# Altium footprint library StrommessplatinePcbLib.PcbLib: 15 footprints
Each footprint in its own frame and in the unit in brackets; x right, y up, seen from the top. Pads: shape width x height; smd on the part's side, far side on the other; paste and mask are expansions set on the pad; w line width, h text height; cw(c..) or ccw(c..) is an arc to the next point about the centre after c.
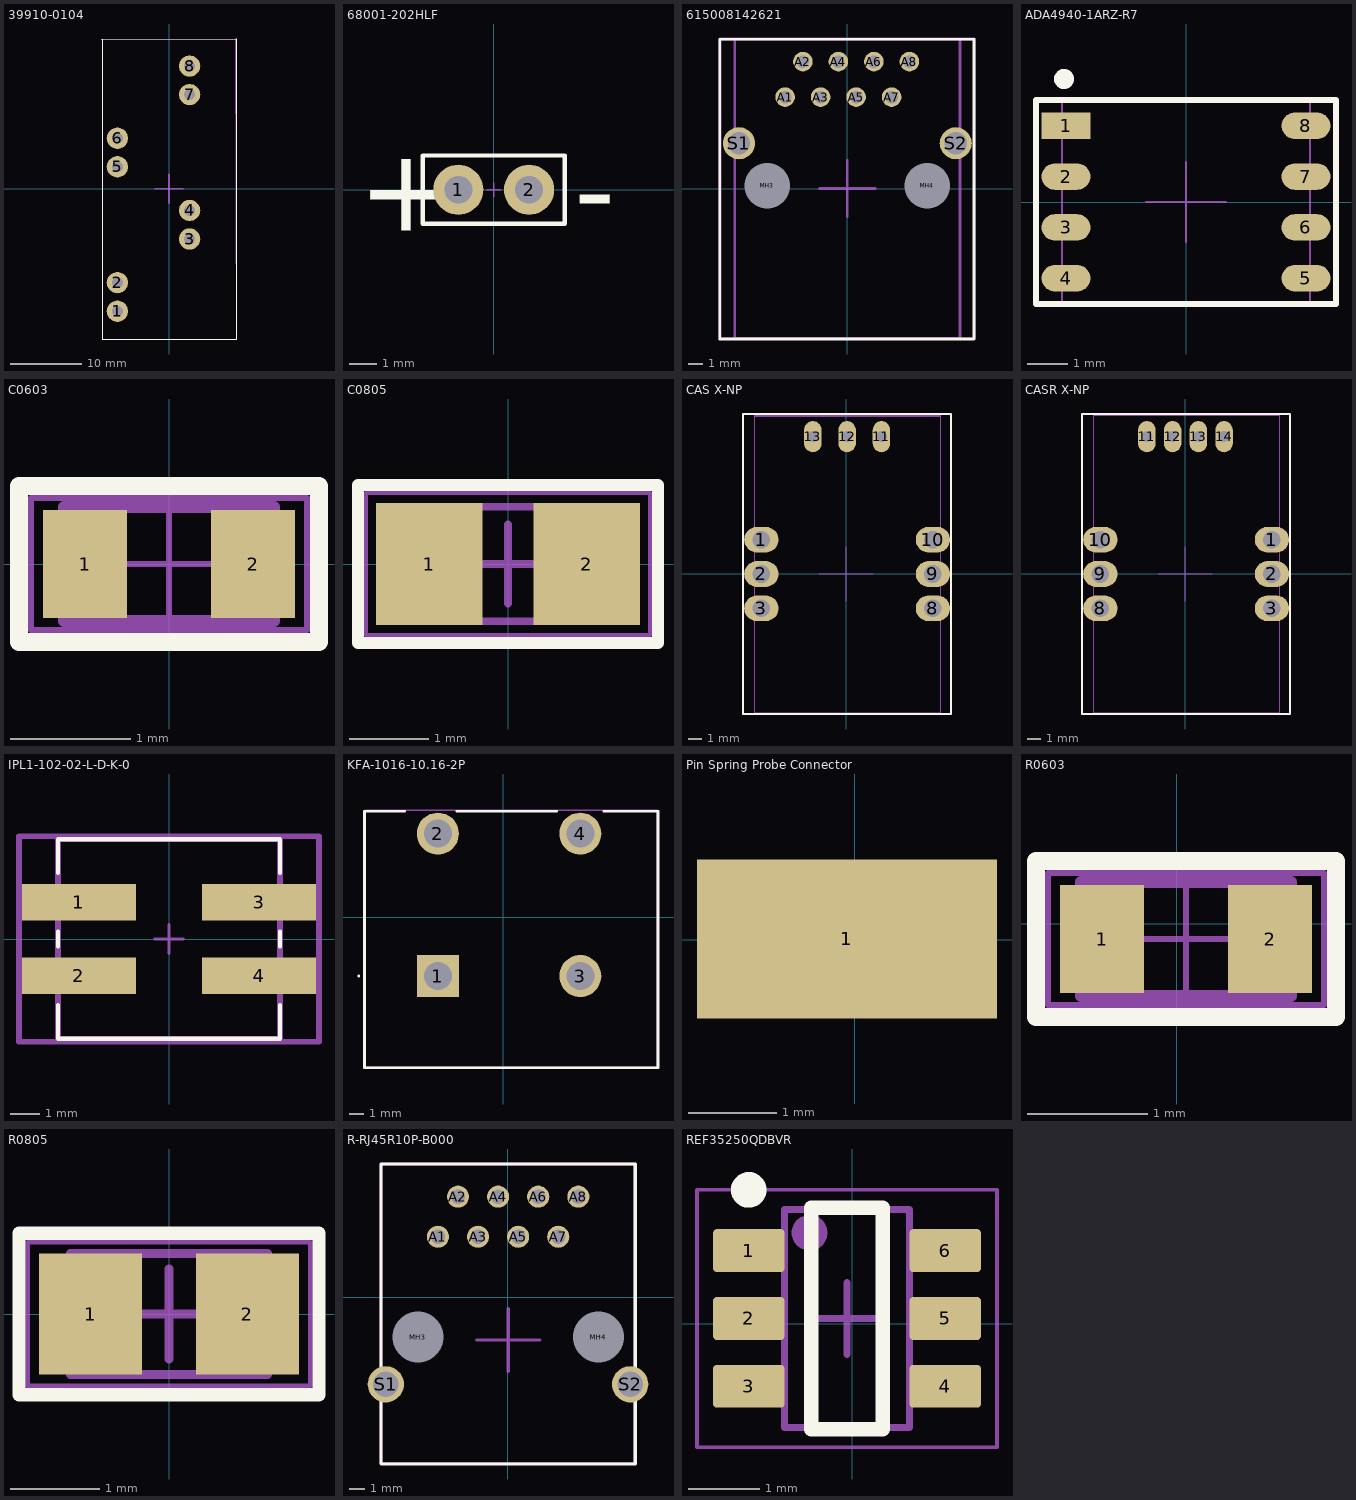
[diagram p0: the footprints below, top view; thin cyan lines are the x and y axes]

## 39910-0104 [mm]
pads (8):
  round 3 hole 1.52: 1(-7.26,-17.245) 2(-7.26,-13.225) 3(2.9,-7.085) 4(2.9,-3.065) 5(-7.26,3.075) 6(-7.26,7.095) 7(2.9,13.235) 8(2.9,17.245)
Top Overlay:
  lines w0.15: -9.43,21.06 9.43,21.06 9.43,-21.155 -9.42,-21.155 -9.42,21.06
Top Assembly:
  lines w0.05: 9.35,21.06 9.43,-21.155 -9.42,-21.155 -9.42,21.06 9.43,21.06
Top Courtyard:
  lines w0.05: -9.43,21.06 9.43,21.06 9.43,-21.155 -9.42,-21.155 -9.42,21.06
Top Designator:
  text "'.Designator'" at -9.251,21.892 h1.52
  text ".Designator" at -7.61,0.789 h1.52
Top Component Center:
  lines w0.254: -2,0 2,0 ; 0,-2 0,2
3D body "399100104.stp": height 29.72, standoff -4.06, extent -9.392,-21.129 9.404,21.035

## 68001-202HLF [mm]
pads (2):
  round 1.8 hole 1: 1(-1.27,0) 2(1.27,0)
Top Overlay:
  lines w0.15: -2.55,-1.225 2.55,-1.225 2.55,1.225 -2.55,1.225 -2.55,-1.225
  text "+" at -4.875,-1.475 h3
  text "-" at 2.9,-1.475 h3
Top Assembly:
  lines w0.05: -2.55,-1.225 2.55,-1.225 2.55,1.225 -2.55,1.225 -2.55,-1.225
Top Courtyard:
  lines w0.05: -2.55,-1.225 2.55,-1.225 2.55,1.225 -2.55,1.225 -2.55,-1.225
Top Designator:
  text "'.Designator'" at -2.271,1.987 h1.52
Top Component Center:
  lines w0.05: -0.25,0 0.25,0 ; 0,-0.25 0,0.25
3D body "68001-202HLF--3DModel-STEP-533217.STEP": height 8.5, standoff -2.93, extent -2.54,-1.206 2.54,1.206

## 615008142621 [mm]
pads (12):
  round 1.4 hole 0.9: A1(-4.45,6.542) A2(-3.18,9.082) A3(-1.91,6.542) A4(-0.64,9.082) A5(0.63,6.542) A6(1.9,9.082) A7(3.17,6.542) A8(4.44,9.082)
  round 1.065 hole 3.25 unplated: MH3(-5.715,0.192) MH4(5.715,0.192)
  round 2.3 hole 1.6: S1(-7.75,3.243) S2(7.75,3.243)
Top Overlay:
  lines w0.2: -9.125,-10.753 9.05,-10.753 9.05,10.672 -9.125,10.672 -9.125,-10.753
Top Assembly:
  lines w0.2: -8.044,-10.727 -8.044,10.673 8.056,10.673 8.056,-10.727 -8.044,-10.727
Top Courtyard:
  lines w0.2: -9.1,-10.727 9.075,-10.727 9.075,10.697 -9.1,10.697 -9.1,-10.727
Top Designator:
  text "'.Designator'" at -5.396,11.659 h1.52
Top Component Center:
  lines w0.2: -2,0 2,0 ; 0,-2 0,2
3D body "615008142621_Download_STP_615008142621_rev1.stp": height 13.31, standoff -4.03, extent -7.94,-10.653 7.94,10.547

## ADA4940-1ARZ-R7 [mm]
pads (8):
  rect 1.22x0.663 smd: 1(-3,1.905)
  oval 1.22x0.663 smd: 2(-3,0.635) 3(-3,-0.635) 4(-3,-1.905) 5(3,-1.905) 6(3,-0.635) 7(3,0.635) 8(3,1.905)
Top Overlay:
  circle w0.25: c-3.05,3.075 r0.125
  lines w0.15: -3.75,-2.55 3.75,-2.55 3.75,2.55 -3.75,2.55 -3.75,-2.55
Top Assembly:
  lines w0.05: -3.1,-2.5 -3.1,2.5 3.1,2.5 3.1,-2.5 -3.1,-2.5
Top Courtyard:
  lines w0.05: -3.75,-2.55 3.75,-2.55 3.75,2.55 -3.75,2.55 -3.75,-2.55
Top Designator:
  text "'.Designator'" at 4,1.017 h0.8
Top Component Center:
  lines w0.05: -1,0 1,0 ; 0,-1 0,1
3D body "R_8_ADI.step": height 1.76, standoff 0, extent -3.099,-2.502 3.099,2.502

## C0603 [mm]
pads (2):
  rect 0.7x0.9 smd: 1(-0.7,0) 2(0.7,0)
Top Overlay:
  lines w0.15: -1.25,-0.65 1.25,-0.65 1.25,0.65 -1.25,0.65 -1.25,-0.65
Top Assembly:
  lines w0.1: -0.875,-0.475 -0.875,0.475 0.875,0.475 0.875,-0.475 -0.875,-0.475
Top Courtyard:
  lines w0.05: -1.15,-0.55 -1.15,0.55 ; -1.15,-0.55 1.15,-0.55 ; -1.15,-0.55 -1.15,0.55 ; -1.15,-0.55 1.15,-0.55 ; -1.15,0.55 1.15,0.55 ; -1.15,0.55 1.15,0.55 ; 1.15,-0.55 1.15,0.55 ; 1.15,-0.55 1.15,0.55
Top Designator:
  text ".Designator" at 1.425,-0.275 h1
Top Component Center:
  lines w0.05: -0.475,0 0.475,0 ; 0,-0.475 0,0.475
Top Value:
  text ".Comment" at 1.4,-1.225 h1
3D body: height 1, standoff 0, extent -0.525,-0.475 0.525,0.475
3D body: height 1, standoff 0, extent -0.875,-0.475 -0.525,0.475
3D body: height 1, standoff 0, extent 0.525,-0.475 0.875,0.475

## C0805 [mm]
pads (2):
  rect 1.35x1.55 smd: 1(-1,0) 2(1,0)
Top Overlay:
  lines w0.15: -1.9,-1 1.9,-1 1.9,1 -1.9,1 -1.9,-1
Top Assembly:
  lines w0.1: -1.1,-0.725 -1.1,0.725 1.1,0.725 1.1,-0.725 -1.1,-0.725
Top Courtyard:
  lines w0.05: -1.8,-0.9 1.8,-0.9 1.8,0.9 -1.8,0.9 -1.8,-0.9
Top Designator:
  text ".Designator" at 2.375,0.15 h1
Top Component Center:
  lines w0.1: -0.5,0 0.5,0 ; 0,-0.5 0,0.5
Top Value:
  text ".Comment" at 2.525,-0.625 h1
3D body: height 1.45, standoff 0, extent -0.6,-0.725 0.6,0.725
3D body: height 1.45, standoff 0, extent -1.1,-0.725 -0.6,0.725
3D body: height 1.45, standoff 0, extent 0.6,-0.725 1.1,0.725

## CAS X-NP [mil]
pads (9):
  oval 100x75 hole 51 mask+0: 1(-248.03,100) 2(-248.03,0) 9(251.97,0) 10(251.97,100)
  oval 100x75 hole 51 mask+4: 3(-248.03,-100) 8(251.97,-100)
  oval 51x91 hole 32: 11(101.97,400) 12(1.97,400) 13(-98.03,400)
Top Overlay:
  lines w5.91: -301.57,-407.87 -301.57,466.14 304.72,466.14 304.72,-407.87 -301.57,-407.87
Top Assembly:
  lines w1.97: 274.21,-404.53 274.21,462.4 -267.13,462.4 -267.13,-404.53 274.61,-404.53
Top Courtyard:
  lines w1.97: -301.57,-407.87 -301.57,466.14 304.72,466.14 304.72,-407.87 -301.57,-407.87
Top Designator:
  text ".Designator" at 319.78,135.12 h60
Top Component Center:
  lines w1.97: -78.74,0 78.74,0 ; 0,-78.74 0,78.74
Top Value:
  lines w1: -267.13,-403.94 -267.13,460.24 274.21,460.24 274.21,-403.94 -267.13,-403.94
3D body "CAS 6-15-25-50-NP Blackbox.stp": height 630.42, standoff -156.98, extent -266.14,-403.35 273.23,459.25

## CASR X-NP [mil]
pads (10):
  oval 100x75 hole 51 mask+0: 1(251.97,100) 2(251.97,0) 9(-248.03,0) 10(-248.03,100)
  oval 100x75 hole 51 mask+4: 3(251.97,-100) 8(-248.03,-100)
  oval 51x91 hole 32: 11(-112.48,400) 12(-37.5,400) 13(37.5,400) 14(112.48,400)
Top Overlay:
  lines w5.91: -301.57,-407.87 -301.57,466.14 304.72,466.14 304.72,-407.87 -301.57,-407.87
Top Assembly:
  lines w1.97: 274.21,-404.53 274.21,462.4 -267.13,462.4 -267.13,-404.53 274.61,-404.53
Top Courtyard:
  lines w1.97: -301.57,-407.87 -301.57,466.14 304.72,466.14 304.72,-407.87 -301.57,-407.87
Top Designator:
  text ".Designator" at 321.75,137.09 h60
Top Component Center:
  lines w1.97: -78.74,0 78.74,0 ; 0,-78.74 0,78.74
3D body "CASR 6-15-25-50-NP Blackbox.stp": height 630.42, standoff -156.98, extent -265.75,-400 273.62,462.6

## IPL1-102-02-L-D-K-0 [mm]
pads (4):
  rect 3.94x1.27 smd paste+0 mask+0: 1(-3.11,1.27) 2(-3.11,-1.27) 3(3.11,1.27) 4(3.11,-1.27)
Top Overlay:
  lines w0.15: -3.835,-2.28 -3.835,-3.45 3.835,-3.45 3.835,-2.28 ; -3.835,-0.26 -3.835,0.26 ; -3.835,2.28 -3.835,3.45 3.835,3.45 3.835,2.28 ; 3.835,-0.26 3.835,0.26
Top 3D Body:
  lines w0.2: -3.835,-3.45 -3.835,3.45 3.835,3.45 3.835,-3.45 -3.835,-3.45
Top Assembly:
  lines w0.2: -5.18,-3.55 -5.18,3.55 5.18,3.55 5.18,-3.55 -5.18,-3.55
Top Courtyard:
  lines w0.2: -5.18,-3.55 -5.18,3.55 5.18,3.55 5.18,-3.55 -5.18,-3.55
Top Designator:
  text ".Designator" at -2.45,3.888 h1
Top Component Center:
  lines w0.1: -0.5,0 0.5,0 ; 0,-0.5 0,0.5
3D body "Conn_Samtec_IPL1-102-02-L-D-K_eec.STEP": height 0.25, standoff 0, extent -5.18,-3.55 5.18,3.55

## KFA-1016-10.16-2P [mm]
pads (4):
  rect 3x3 hole 2: 1(-4.654,-4.179)
  round 3 hole 2: 2(-4.654,5.981) 3(5.506,-4.179) 4(5.506,5.981)
Top Overlay:
  lines w0.1: -10.354,-4.179 cw(c-10.304,-4.179) -10.254,-4.179 cw(c-10.304,-4.179) -10.354,-4.179
  lines w0.2: -7.025,7.581 -9.9,7.581 -9.9,-10.725 11.05,-10.725 11.05,7.581 7.199,7.581 ; -3.299,7.581 3.813,7.581
Mechanical 15:
  lines w0.1: -9.85,-10.675 11,-10.675 11,7.65 -9.85,7.65 -9.85,-10.675
3D body "Kaan_park.STEP": height 30.1, standoff -2.4, extent -9.87,-10.625 10.95,7.675

## Pin Spring Probe Connector [mm] "Pogo Pin Spring Probe Connector ROHS / TEST POINTS ON TAPE & REEL MICRO MINIATURE"
pads (1):
  rect 3.4x1.8 smd paste+0 mask+0: 1(-0.087,0.011)
Top Assembly:
  circle w0.6: c-0.087,0.011 r0.2
Top Designator:
  text ".Designator" at 1.31,-0.243 h1
Top Component Center:
  lines w0.05: -0.587,0.011 0.413,0.011 ; -0.087,-0.489 -0.087,0.511

## R0603 [mm]
pads (2):
  rect 0.7x0.9 smd: 1(-0.625,-0.125) 2(0.775,-0.125)
Top Overlay:
  lines w0.15: -1.175,-0.775 1.325,-0.775 1.325,0.525 -1.175,0.525 -1.175,-0.775
Top Assembly:
  lines w0.1: -0.8,-0.6 -0.8,0.35 0.95,0.35 0.95,-0.6 -0.8,-0.6
Top Courtyard:
  lines w0.05: -1.075,-0.675 -1.075,0.425 ; -1.075,-0.675 1.225,-0.675 ; -1.075,-0.675 -1.075,0.425 ; -1.075,-0.675 1.225,-0.675 ; -1.075,0.425 1.225,0.425 ; -1.075,0.425 1.225,0.425 ; 1.225,-0.675 1.225,0.425 ; 1.225,-0.675 1.225,0.425
Top Designator:
  text ".Designator" at 1.5,-0.4 h1
Top Component Center:
  lines w0.05: -0.4,-0.125 0.55,-0.125 ; 0.075,-0.6 0.075,0.35
Top Value:
  text ".Comment" at 1.475,-1.35 h1
3D body: height 1, standoff 0, extent -0.45,-0.6 0.6,0.35
3D body: height 1, standoff 0, extent -0.8,-0.6 -0.45,0.35
3D body: height 1, standoff 0, extent 0.6,-0.6 0.95,0.35

## R0805 [mm]
pads (2):
  rect 1.15x1.35 smd: 1(-0.875,0) 2(0.875,0)
Top Overlay:
  lines w0.15: -1.675,-0.9 -1.675,0.9 1.675,0.9 1.675,-0.9 -1.675,-0.9
Top Assembly:
  lines w0.1: -1.1,-0.675 1.1,-0.675 1.1,0.675 -1.1,0.675 -1.1,-0.675
Top Courtyard:
  lines w0.05: -1.575,-0.8 1.575,-0.8 1.575,0.8 -1.575,0.8 -1.575,-0.8
Top Designator:
  text ".Designator" at -0.5,1.25 h1
Top Component Center:
  lines w0.1: -0.5,0 0.5,0 ; 0,-0.5 0,0.5
Top Value:
  text ".Comment" at -0.5,2.25 h1
3D body "0805 resistor.STEP": height 0.6, standoff 0, extent -1,-0.625 1,0.625

## R-RJ45R10P-B000 [mm] "RJ45Receptacle 1 Shielded Bend insert Without LED 0?~+70? Plugin Ethernet Connectors / Modular Connectors (RJ45 RJ11) ROHS"
pads (12):
  round 1.4 hole 0.9: A1(-4.425,3.842) A2(-3.155,6.382) A3(-1.885,3.842) A4(-0.615,6.382) A5(0.655,3.842) A6(1.925,6.382) A7(3.195,3.842) A8(4.465,6.382)
  round 1.065 hole 3.25 unplated: MH3(-5.69,-2.508) MH4(5.74,-2.508)
  round 2.3 hole 1.6: S1(-7.725,-5.5) S2(7.75,-5.5)
Top Overlay:
  lines w0.2: -8.025,-10.55 -8.025,8.45 8.075,8.45 8.075,-10.55 -8.025,-10.55
Top Assembly:
  lines w0.2: -8.025,-10.525 8.081,-10.525 8.081,8.45 -8.025,8.45 -8.025,-10.525
Top Courtyard:
  lines w0.2: -8.025,-10.525 -8.025,8.45 8.075,8.45 8.075,-10.525 -8.025,-10.525
Top Designator:
  text "'.Designator'" at -5.371,8.959 h1.52
Top Component Center:
  lines w0.2: -1.975,-2.7 2.025,-2.7 ; 0.025,-4.7 0.025,-0.7
3D body "RJ45_R10P.STEP": height 14.5, standoff -1.9, extent -7.9,-10.425 7.9,8.375

## REF35250QDBVR [mm] "IC VREF SERIES SOT23-6"
pads (6):
  rrect17% 1x0.6 smd: 1(-1.45,1.025) 2(-1.45,0.075) 3(-1.45,-0.875) 4(1.3,-0.875) 5(1.3,0.075) 6(1.3,1.025)
Top Overlay:
  circle w0.25: c-1.45,1.875 r0.125
  lines w0.2: -0.575,-1.475 -0.575,1.625 0.425,1.625 0.425,-1.475 -0.575,-1.475
Top Assembly:
  circle w0.25: c-0.6,1.275 r0.125
  lines w0.1: -0.95,-1.45 0.8,-1.45 0.8,1.6 -0.95,1.6 -0.95,-1.45
  text ".Designator" at 0.325,-1.249 h0.76
Mechanical 15:
  lines w0.05: -2.175,-1.725 2.025,-1.725 2.025,1.875 -2.175,1.875 -2.175,-1.725
  lines w0.1: -0.575,0.075 0.425,0.075 ; -0.075,-0.425 -0.075,0.575
3D body "DBV0006AakaMF06A.stp": height 1.11, standoff -0.01, extent -1.497,-1.386 1.347,1.535